# Altium footprint library WE-SHC.PcbLib: 139 footprints (part 8 of 10)
Each footprint in its own frame and in the unit in brackets; x right, y up, seen from the top. Pads: shape width x height; smd on the part's side, far side on the other; paste and mask are expansions set on the pad; w line width, h text height; cw(c..) or ccw(c..) is an arc to the next point about the centre after c.
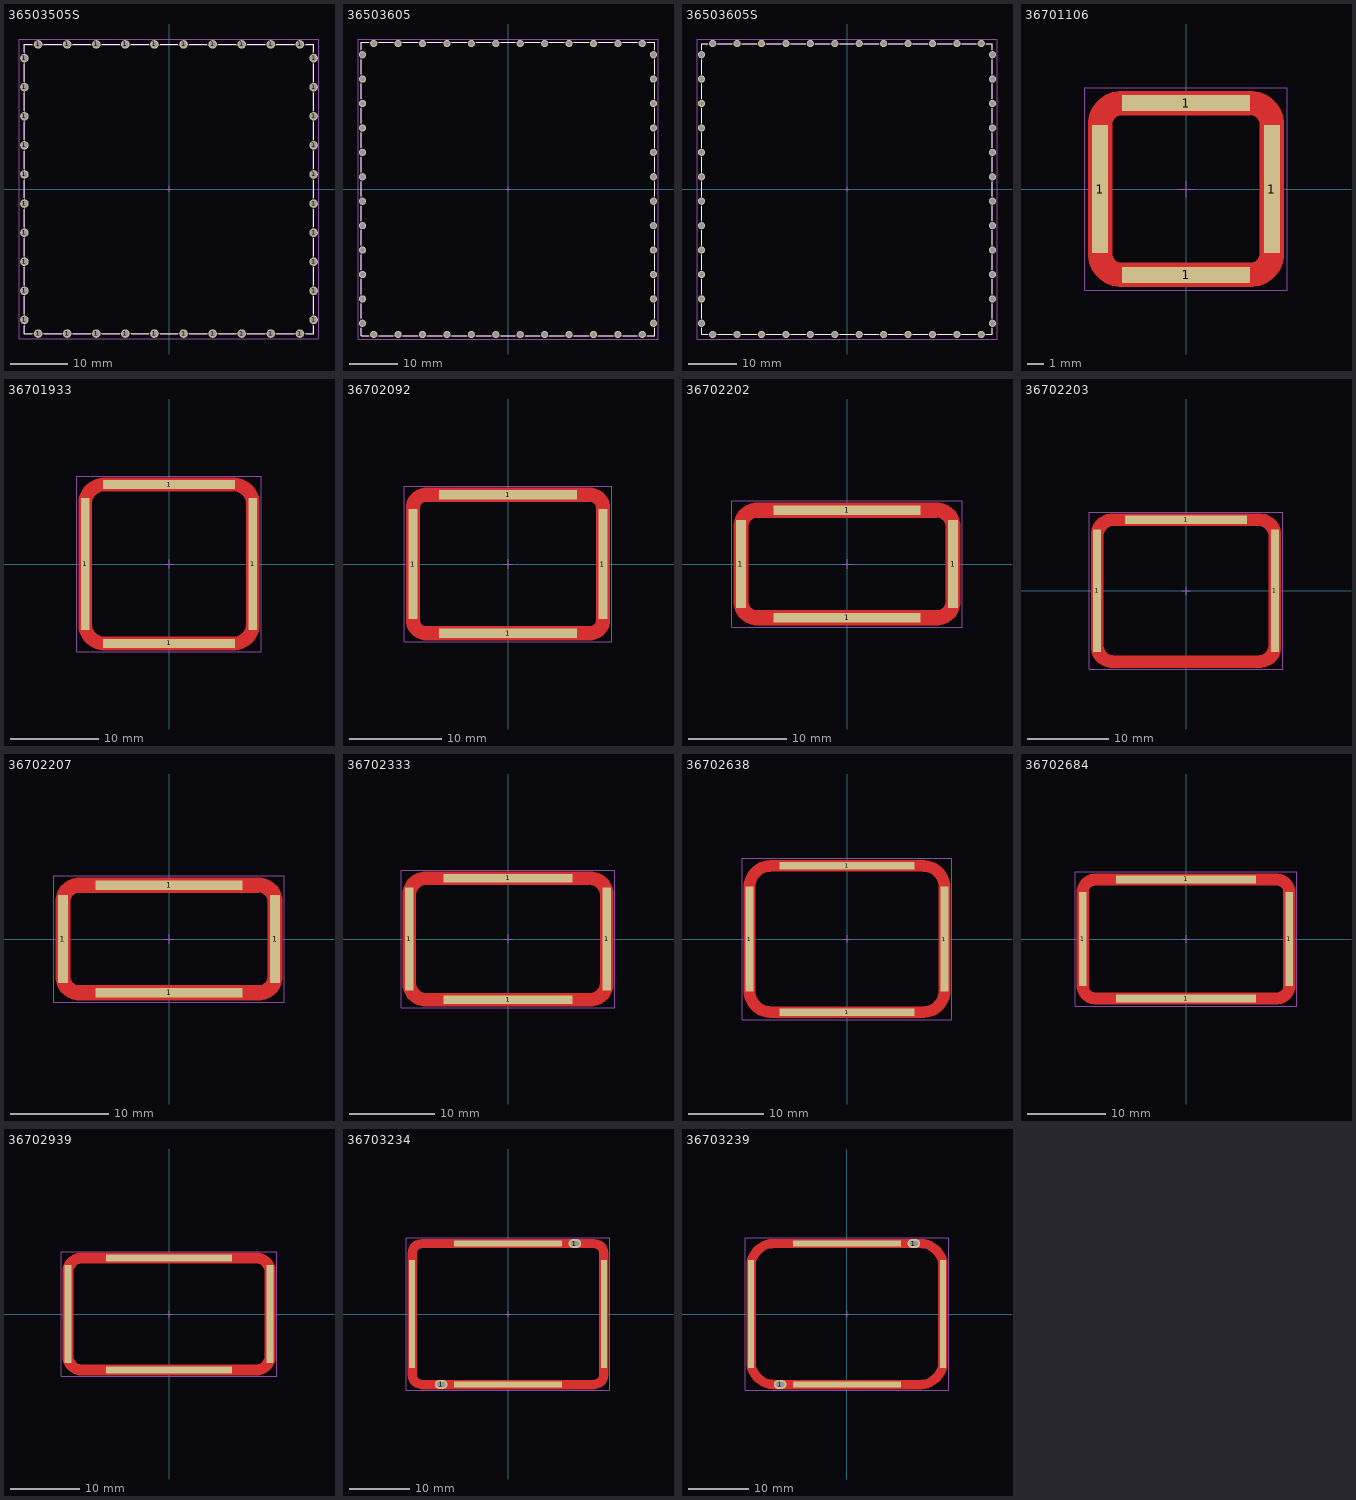
[diagram p7: the footprints below, top view; thin cyan lines are the x and y axes]

## 36503505S [mm] "Shielding Cabinet, THT Frame, body 50.4x50.4mm"
height 3.3
pads (40):
  round 1.5 hole 1.1: 1(-25.25,-22.86) 1(-25.25,-17.78) 1(-25.25,-12.7) 1(-25.25,-7.62) 1(-25.25,-2.54) 1(-25.25,2.54) 1(-25.25,7.62) 1(-25.25,12.7) 1(-25.25,17.78) 1(-25.25,22.86) 1(-22.86,-25.25) 1(-22.86,25.25) 1(-17.78,-25.25) 1(-17.78,25.25) 1(-12.7,-25.25) 1(-12.7,25.25) 1(-7.62,-25.25) 1(-7.62,25.25) 1(-2.54,-25.25) 1(-2.54,25.25) 1(2.54,-25.25) 1(2.54,25.25) 1(7.62,-25.25) 1(7.62,25.25) 1(12.7,-25.25) 1(12.7,25.25) 1(17.78,-25.25) 1(17.78,25.25) 1(22.86,-25.25) 1(22.86,25.25) 1(25.25,-22.86) 1(25.25,-17.78) 1(25.25,-12.7) 1(25.25,-7.62) 1(25.25,-2.54) 1(25.25,2.54) 1(25.25,7.62) 1(25.25,12.7) 1(25.25,17.78) 1(25.25,22.86)
Top Overlay:
  lines w0.2: -25.25,-23.85 -25.25,-25.25 -23.85,-25.25 ; -25.25,-21.87 -25.25,-18.75 ; -25.25,-16.81 -25.25,-13.69 ; -25.25,-11.73 -25.25,-8.61 ; -25.25,-6.65 -25.25,-3.53 ; -25.25,-1.57 -25.25,1.55 ; -25.25,3.51 -25.25,6.63 ; -25.25,8.59 -25.25,11.71 ; -25.25,13.67 -25.25,16.79 ; -25.25,18.75 -25.25,21.87 ; -25.25,23.85 -25.25,25.25 -23.85,25.25 ; -21.87,-25.25 -18.75,-25.25 ; -21.87,25.25 -18.75,25.25 ; -16.81,25.25 -13.69,25.25 ; -16.79,-25.25 -13.67,-25.25 ; -11.73,25.25 -8.61,25.25 ; -11.71,-25.25 -8.59,-25.25 ; -6.65,25.25 -3.53,25.25 ; -6.63,-25.25 -3.51,-25.25 ; -1.57,25.25 1.55,25.25 ; -1.55,-25.25 1.57,-25.25 ; 3.51,25.25 6.63,25.25 ; 3.53,-25.25 6.65,-25.25 ; 8.59,25.25 11.71,25.25 ; 8.61,-25.25 11.73,-25.25 ; 13.67,25.25 16.79,25.25 ; 13.69,-25.25 16.81,-25.25 ; 18.75,-25.25 21.87,-25.25 ; 18.75,25.25 21.87,25.25 ; 23.85,-25.25 25.25,-25.25 25.25,-23.85 ; 23.85,25.25 25.25,25.25 25.25,23.85 ; 25.25,-21.87 25.25,-18.75 ; 25.25,-16.79 25.25,-13.67 ; 25.25,-11.71 25.25,-8.59 ; 25.25,-6.63 25.25,-3.51 ; 25.25,-1.55 25.25,1.57 ; 25.25,3.53 25.25,6.65 ; 25.25,8.61 25.25,11.73 ; 25.25,13.69 25.25,16.81 ; 25.25,18.75 25.25,21.87
Top Component Outline:
  lines w0.1: -25.2,-25.2 25.2,-25.2 25.2,25.2 -25.2,25.2 -25.2,-25.2
Top 3D Body:
  lines w0.1: -25.2,-25.2 -25.2,25.2 25.2,25.2 25.2,-25.2 -25.2,-25.2
Top Courtyard:
  lines w0.05: -26.2,-26.2 26.2,-26.2 26.2,26.2 -26.2,26.2 -26.2,-26.2
Top Component Center:
  lines w0.05: -0.5,0 0.5,0 ; 0,-0.5 0,0.5
Top Designator (Mech19):
  text ".Designator" at -7.498,-0.5 h1.5
3D body "36503505S.stp": height 3.23, standoff -2.87, extent -25.2,-25.2 25.2,25.2

## 36503605 [mm] "Shielding Cabinet, THT Frame, body 61x61mm"
height 3.6
pads (48):
  round 1.5 hole 1.1: 1(-30.25,-27.94) 1(-30.25,-22.86) 1(-30.25,-17.78) 1(-30.25,-12.7) 1(-30.25,-7.62) 1(-30.25,-2.54) 1(-30.25,2.54) 1(-30.25,7.62) 1(-30.25,12.7) 1(-30.25,17.78) 1(-30.25,22.86) 1(-30.25,27.94) 1(-27.94,-30.25) 1(-27.94,30.25) 1(-22.86,-30.25) 1(-22.86,30.25) 1(-17.78,-30.25) 1(-17.78,30.25) 1(-12.7,-30.25) 1(-12.7,30.25) 1(-7.62,-30.25) 1(-7.62,30.25) 1(-2.54,-30.25) 1(-2.54,30.25) 1(2.54,-30.25) 1(2.54,30.25) 1(7.62,-30.25) 1(7.62,30.25) 1(12.7,-30.25) 1(12.7,30.25) 1(17.78,-30.25) 1(17.78,30.25) 1(22.86,-30.25) 1(22.86,30.25) 1(27.94,-30.25) 1(27.94,30.25) 1(30.25,-27.94) 1(30.25,-22.86) 1(30.25,-17.78) 1(30.25,-12.7) 1(30.25,-7.62) 1(30.25,-2.54) 1(30.25,2.54) 1(30.25,7.62) 1(30.25,12.7) 1(30.25,17.78) 1(30.25,22.86) 1(30.25,27.94)
Top Overlay:
  lines w0.2: -30.55,-28.95 -30.55,-30.55 -28.95,-30.55 ; -30.55,-26.93 -30.55,-23.85 ; -30.55,-21.87 -30.55,-18.79 ; -30.55,-16.79 -30.55,-13.71 ; -30.55,-11.71 -30.55,-8.63 ; -30.55,-6.63 -30.55,-3.55 ; -30.55,-1.55 -30.55,1.53 ; -30.55,3.53 -30.55,6.61 ; -30.55,8.61 -30.55,11.69 ; -30.55,13.69 -30.55,16.77 ; -30.55,18.77 -30.55,21.85 ; -30.55,23.85 -30.55,26.93 ; -30.55,28.95 -30.55,30.55 -28.95,30.55 ; -26.93,-30.55 -23.85,-30.55 ; -26.93,30.55 -23.85,30.55 ; -21.87,30.55 -18.79,30.55 ; -21.85,-30.55 -18.77,-30.55 ; -16.79,30.55 -13.71,30.55 ; -16.77,-30.55 -13.69,-30.55 ; -11.71,30.55 -8.63,30.55 ; -11.69,-30.55 -8.61,-30.55 ; -6.63,30.55 -3.55,30.55 ; -6.61,-30.55 -3.53,-30.55 ; -1.55,30.55 1.53,30.55 ; -1.53,-30.55 1.55,-30.55 ; 3.53,30.55 6.61,30.55 ; 3.55,-30.55 6.63,-30.55 ; 8.61,30.55 11.69,30.55 ; 8.63,-30.55 11.71,-30.55 ; 13.69,30.55 16.77,30.55 ; 13.71,-30.55 16.79,-30.55 ; 18.77,30.55 21.85,30.55 ; 18.79,-30.55 21.87,-30.55 ; 23.85,-30.55 26.93,-30.55 ; 23.85,30.55 26.93,30.55 ; 28.95,-30.55 30.55,-30.55 30.55,-28.95 ; 28.95,30.55 30.55,30.55 30.55,28.95 ; 30.55,-26.93 30.55,-23.85 ; 30.55,-21.85 30.55,-18.77 ; 30.55,-16.77 30.55,-13.69 ; 30.55,-11.69 30.55,-8.61 ; 30.55,-6.61 30.55,-3.53 ; 30.55,-1.53 30.55,1.55 ; 30.55,3.55 30.55,6.63 ; 30.55,8.63 30.55,11.71 ; 30.55,13.71 30.55,16.79 ; 30.55,18.79 30.55,21.87 ; 30.55,23.85 30.55,26.93
Top Component Outline:
  lines w0.1: -30.5,-30.5 -30.5,30.5 30.5,30.5 30.5,-30.5 -30.5,-30.5
Top 3D Body:
  lines w0.1: -30.5,-30.5 30.5,-30.5 30.5,30.5 -30.5,30.5 -30.5,-30.5
Top Courtyard:
  lines w0.05: -31.2,-31.2 -31.2,31.2 31.2,31.2 31.2,-31.2 -31.2,-31.2
Top Component Center:
  lines w0.05: -0.5,0 0.5,0 ; 0,-0.5 0,0.5
Top Designator (Mech19):
  text ".Designator" at -7.498,-0.5 h1.5
3D body "36503605.stp": height 3.5, standoff -2.9, extent -30.5,-30.5 30.5,30.5

## 36503605S [mm] "Shielding Cabinet, THT Frame, body 60.4x60.4mm"
height 3.3
pads (48):
  round 1.5 hole 1.1: 1(-30.25,-27.94) 1(-30.25,-22.86) 1(-30.25,-17.78) 1(-30.25,-12.7) 1(-30.25,-7.62) 1(-30.25,-2.54) 1(-30.25,2.54) 1(-30.25,7.62) 1(-30.25,12.7) 1(-30.25,17.78) 1(-30.25,22.86) 1(-30.25,27.94) 1(-27.94,-30.25) 1(-27.94,30.25) 1(-22.86,-30.25) 1(-22.86,30.25) 1(-17.78,-30.25) 1(-17.78,30.25) 1(-12.7,-30.25) 1(-12.7,30.25) 1(-7.62,-30.25) 1(-7.62,30.25) 1(-2.54,-30.25) 1(-2.54,30.25) 1(2.54,-30.25) 1(2.54,30.25) 1(7.62,-30.25) 1(7.62,30.25) 1(12.7,-30.25) 1(12.7,30.25) 1(17.78,-30.25) 1(17.78,30.25) 1(22.86,-30.25) 1(22.86,30.25) 1(27.94,-30.25) 1(27.94,30.25) 1(30.25,-27.94) 1(30.25,-22.86) 1(30.25,-17.78) 1(30.25,-12.7) 1(30.25,-7.62) 1(30.25,-2.54) 1(30.25,2.54) 1(30.25,7.62) 1(30.25,12.7) 1(30.25,17.78) 1(30.25,22.86) 1(30.25,27.94)
Top Overlay:
  lines w0.2: -30.25,-28.95 -30.25,-30.25 -28.95,-30.25 ; -30.25,-26.93 -30.25,-23.85 ; -30.25,-21.87 -30.25,-18.79 ; -30.25,-16.79 -30.25,-13.71 ; -30.25,-11.71 -30.25,-8.63 ; -30.25,-6.63 -30.25,-3.55 ; -30.25,-1.55 -30.25,1.53 ; -30.25,3.53 -30.25,6.61 ; -30.25,8.61 -30.25,11.69 ; -30.25,13.69 -30.25,16.77 ; -30.25,18.77 -30.25,21.85 ; -30.25,23.85 -30.25,26.93 ; -30.25,28.95 -30.25,30.25 -28.95,30.25 ; -26.93,-30.25 -23.85,-30.25 ; -26.93,30.25 -23.85,30.25 ; -21.87,30.25 -18.79,30.25 ; -21.85,-30.25 -18.77,-30.25 ; -16.79,30.25 -13.71,30.25 ; -16.77,-30.25 -13.69,-30.25 ; -11.71,30.25 -8.63,30.25 ; -11.69,-30.25 -8.61,-30.25 ; -6.63,30.25 -3.55,30.25 ; -6.61,-30.25 -3.53,-30.25 ; -1.55,30.25 1.53,30.25 ; -1.53,-30.25 1.55,-30.25 ; 3.53,30.25 6.61,30.25 ; 3.55,-30.25 6.63,-30.25 ; 8.61,30.25 11.69,30.25 ; 8.63,-30.25 11.71,-30.25 ; 13.69,30.25 16.77,30.25 ; 13.71,-30.25 16.79,-30.25 ; 18.77,30.25 21.85,30.25 ; 18.79,-30.25 21.87,-30.25 ; 23.85,-30.25 26.93,-30.25 ; 23.85,30.25 26.93,30.25 ; 28.95,-30.25 30.25,-30.25 30.25,-28.95 ; 28.95,30.25 30.25,30.25 30.25,28.95 ; 30.25,-26.93 30.25,-23.85 ; 30.25,-21.85 30.25,-18.77 ; 30.25,-16.77 30.25,-13.69 ; 30.25,-11.69 30.25,-8.61 ; 30.25,-6.61 30.25,-3.53 ; 30.25,-1.53 30.25,1.55 ; 30.25,3.55 30.25,6.63 ; 30.25,8.63 30.25,11.71 ; 30.25,13.71 30.25,16.79 ; 30.25,18.79 30.25,21.87 ; 30.25,23.85 30.25,26.93
Top Component Outline:
  lines w0.1: -30.2,-30.2 -30.2,30.2 30.2,30.2 30.2,-30.2 -30.2,-30.2
Top 3D Body:
  lines w0.1: -30.2,-30.2 30.2,-30.2 30.2,30.2 -30.2,30.2 -30.2,-30.2
Top Courtyard:
  lines w0.05: -31.2,-31.2 -31.2,31.2 31.2,31.2 31.2,-31.2 -31.2,-31.2
Top Component Center:
  lines w0.05: -0.5,0 0.5,0 ; 0,-0.5 0,0.5
Top Designator (Mech19):
  text ".Designator" at -7.498,-0.5 h1.5
3D body "36503605S.stp": height 3.2, standoff -2.9, extent -30.2,-30.2 30.2,30.2

## 36701106 [mm] "Shielding Cabinet, SMT Frame Seamless, 11x11x6mm"
height 6
pads (4):
  rect 1x8 smd paste-2539.97 mask-2222: 1(-5.35,0) 1(5.35,0)
  rect 8x1 smd paste-2539.97 mask-2222: 1(0,-5.35) 1(0,5.35)
Top Layer:
  region: -6.1,-1 -6.1,4 -6.1,4.207 -6.019,4.613 -5.861,4.995 -5.631,5.339 -5.339,5.631 -4.995,5.861 -4.613,6.019 -4.207,6.1 -4,6.1 4,6.1 4.207,6.1 4.613,6.019 4.995,5.861 5.339,5.631 5.631,5.339 5.861,4.995 6.019,4.613 6.1,4.207 6.1,4 6.1,-1 4.6,-1 4.6,4 4.588,4.117 4.499,4.333 4.333,4.499 4.117,4.588 4,4.6 -4,4.6 -4.117,4.588 -4.333,4.499 -4.499,4.333 -4.588,4.117 -4.6,4 -4.6,-1
  region: -6.1,-0.25 -6.1,-4 -6.1,-4.207 -6.019,-4.613 -5.861,-4.995 -5.631,-5.339 -5.339,-5.631 -4.995,-5.861 -4.613,-6.019 -4.207,-6.1 -4,-6.1 4,-6.1 4.207,-6.1 4.613,-6.019 4.995,-5.861 5.339,-5.631 5.631,-5.339 5.861,-4.995 6.019,-4.613 6.1,-4.207 6.1,-4 6.1,-0.25 4.6,-0.25 4.6,-4 4.588,-4.117 4.499,-4.333 4.333,-4.499 4.117,-4.588 4,-4.6 -4,-4.6 -4.117,-4.588 -4.333,-4.499 -4.499,-4.333 -4.588,-4.117 -4.6,-4 -4.6,-0.25
Top Paste:
  region: -6.1,-0.25 -6.1,-4 -6.1,-4.207 -6.019,-4.613 -5.861,-4.995 -5.631,-5.339 -5.339,-5.631 -4.995,-5.861 -4.613,-6.019 -4.207,-6.1 -4,-6.1 4,-6.1 4.207,-6.1 4.613,-6.019 4.995,-5.861 5.339,-5.631 5.631,-5.339 5.861,-4.995 6.019,-4.613 6.1,-4.207 6.1,-4 6.1,-0.25 4.6,-0.25 4.6,-4 4.588,-4.117 4.499,-4.333 4.333,-4.499 4.117,-4.588 4,-4.6 -4,-4.6 -4.117,-4.588 -4.333,-4.499 -4.499,-4.333 -4.588,-4.117 -4.6,-4 -4.6,-0.25
  region: -6.1,0.25 -6.1,4 -6.1,4.207 -6.019,4.613 -5.861,4.995 -5.631,5.339 -5.339,5.631 -4.995,5.861 -4.613,6.019 -4.207,6.1 -4,6.1 4,6.1 4.207,6.1 4.613,6.019 4.995,5.861 5.339,5.631 5.631,5.339 5.861,4.995 6.019,4.613 6.1,4.207 6.1,4 6.1,0.25 4.6,0.25 4.6,4 4.588,4.117 4.499,4.333 4.333,4.499 4.117,4.588 4,4.6 -4,4.6 -4.117,4.588 -4.333,4.499 -4.499,4.333 -4.588,4.117 -4.6,4 -4.6,0.25
Assembly Notes:
  text "recommended tin paste thickness=0.5mm / customer to define the final stencil gap" at -6.3,-7.7 h0.4
Top Component Outline:
  lines w0.1: -5.5,-4 ccw(c-4,-4) -4,-5.5 4,-5.5 ccw(c4,-4) 5.5,-4 5.5,4 ccw(c4,4) 4,5.5 -4,5.5 ccw(c-4,4) -5.5,4 -5.5,-4
Top 3D Body:
  lines w0.1: -5.5,-4 ccw(c-4,-4) -4,-5.5 4,-5.5 ccw(c4,-4) 5.5,-4 5.5,4 ccw(c4,4) 4,5.5 -4,5.5 ccw(c-4,4) -5.5,4 -5.5,-4
Top Courtyard:
  lines w0.05: -6.3,-6.3 6.3,-6.3 6.3,6.3 -6.3,6.3 -6.3,-6.3
Top Component Center:
  lines w0.05: -0.5,0 0.5,0 ; 0,-0.5 0,0.5
Top Designator (Mech19):
  text ".Designator" at -7.498,-0.5 h1.5
3D body "36701106.stp": height 6, standoff 0, extent -5.5,-5.5 5.5,5.5

## 36701933 [mm] "Shielding Cabinet, SMT Frame Seamless, 19.3x18.3x3.5mm"
height 3.5
pads (4):
  rect 1x15 smd paste-2539.97 mask-2222: 1(-9.5,0) 1(9.5,0)
  rect 15x1 smd paste-2539.97 mask-2222: 1(0,-9) 1(0,9)
Top Layer:
  region: -10.25,-1 -10.25,6.85 -10.25,7.04 -10.2,7.417 -10.102,7.784 -9.957,8.135 -9.766,8.465 -9.535,8.766 -9.266,9.035 -8.965,9.266 -8.635,9.457 -8.284,9.602 -7.917,9.7 -7.54,9.75 -7.35,9.75 7.35,9.75 7.54,9.75 7.917,9.7 8.284,9.602 8.635,9.457 8.965,9.266 9.266,9.035 9.535,8.766 9.766,8.465 9.957,8.135 10.102,7.784 10.2,7.417 10.25,7.04 10.25,6.85 10.25,-1 8.75,-1 8.75,6.8 8.743,6.942 8.688,7.221 8.579,7.484 8.421,7.72 8.22,7.921 7.984,8.079 7.721,8.188 7.442,8.243 7.3,8.25 -7.3,8.25 -7.442,8.243 -7.721,8.188 -7.984,8.079 -8.22,7.921 -8.421,7.72 -8.579,7.484 -8.688,7.221 -8.743,6.942 -8.75,6.8 -8.75,-1
  region: -10.25,-0.25 -10.25,-6.85 -10.25,-7.04 -10.2,-7.417 -10.102,-7.784 -9.957,-8.135 -9.766,-8.465 -9.535,-8.766 -9.266,-9.035 -8.965,-9.266 -8.635,-9.457 -8.284,-9.602 -7.917,-9.7 -7.54,-9.75 -7.35,-9.75 7.35,-9.75 7.54,-9.75 7.917,-9.7 8.284,-9.602 8.635,-9.457 8.965,-9.266 9.266,-9.035 9.535,-8.766 9.766,-8.465 9.957,-8.135 10.102,-7.784 10.2,-7.417 10.25,-7.04 10.25,-6.85 10.25,-0.25 8.75,-0.25 8.75,-6.8 8.743,-6.942 8.688,-7.221 8.579,-7.484 8.421,-7.72 8.22,-7.921 7.984,-8.079 7.721,-8.188 7.442,-8.243 7.3,-8.25 -7.3,-8.25 -7.442,-8.243 -7.721,-8.188 -7.984,-8.079 -8.22,-7.921 -8.421,-7.72 -8.579,-7.484 -8.688,-7.221 -8.743,-6.942 -8.75,-6.8 -8.75,-0.25
Top Paste:
  region: -10.25,-0.25 -10.25,-6.85 -10.25,-7.04 -10.2,-7.417 -10.102,-7.784 -9.957,-8.135 -9.766,-8.465 -9.535,-8.766 -9.266,-9.035 -8.965,-9.266 -8.635,-9.457 -8.284,-9.602 -7.917,-9.7 -7.54,-9.75 -7.35,-9.75 7.35,-9.75 7.54,-9.75 7.917,-9.7 8.284,-9.602 8.635,-9.457 8.965,-9.266 9.266,-9.035 9.535,-8.766 9.766,-8.465 9.957,-8.135 10.102,-7.784 10.2,-7.417 10.25,-7.04 10.25,-6.85 10.25,-0.25 8.75,-0.25 8.75,-6.8 8.743,-6.942 8.688,-7.221 8.579,-7.484 8.421,-7.72 8.22,-7.921 7.984,-8.079 7.721,-8.188 7.442,-8.243 7.3,-8.25 -7.3,-8.25 -7.442,-8.243 -7.721,-8.188 -7.984,-8.079 -8.22,-7.921 -8.421,-7.72 -8.579,-7.484 -8.688,-7.221 -8.743,-6.942 -8.75,-6.8 -8.75,-0.25
  region: -10.25,0.25 -10.25,6.85 -10.25,7.04 -10.2,7.417 -10.102,7.784 -9.957,8.135 -9.766,8.465 -9.535,8.766 -9.266,9.035 -8.965,9.266 -8.635,9.457 -8.284,9.602 -7.917,9.7 -7.54,9.75 -7.35,9.75 7.35,9.75 7.54,9.75 7.917,9.7 8.284,9.602 8.635,9.457 8.965,9.266 9.266,9.035 9.535,8.766 9.766,8.465 9.957,8.135 10.102,7.784 10.2,7.417 10.25,7.04 10.25,6.85 10.25,0.25 8.75,0.25 8.75,6.8 8.743,6.942 8.688,7.221 8.579,7.484 8.421,7.72 8.22,7.921 7.984,8.079 7.721,8.188 7.442,8.243 7.3,8.25 -7.3,8.25 -7.442,8.243 -7.721,8.188 -7.984,8.079 -8.22,7.921 -8.421,7.72 -8.579,7.484 -8.688,7.221 -8.743,6.942 -8.75,6.8 -8.75,0.25
Assembly Notes:
  text "recommended tin paste thickness=0.5mm / customer to define the final stencil gap" at -5.65,-11.3 h0.4
Top Component Outline:
  lines w0.1: -9.65,-6.9 ccw(c-7.4,-6.9) -7.4,-9.15 7.4,-9.15 ccw(c7.4,-6.9) 9.65,-6.9 9.65,6.9 ccw(c7.4,6.9) 7.4,9.15 -7.4,9.15 ccw(c-7.4,6.9) -9.65,6.9 -9.65,-6.9
Top 3D Body:
  lines w0.1: -9.65,-6.9 ccw(c-7.4,-6.9) -7.4,-9.15 7.4,-9.15 ccw(c7.4,-6.9) 9.65,-6.9 9.65,6.9 ccw(c7.4,6.9) 7.4,9.15 -7.4,9.15 ccw(c-7.4,6.9) -9.65,6.9 -9.65,-6.9
Top Courtyard:
  lines w0.05: -10.45,-9.95 -10.45,9.95 10.45,9.95 10.45,-9.95 -10.45,-9.95
Top Component Center:
  lines w0.05: -0.5,0 0.5,0 ; 0,-0.5 0,0.5
Top Designator (Mech19):
  text ".Designator" at -7.498,-0.5 h1.5
3D body "36701933.stp": height 3.5, standoff 0, extent -9.65,-9.15 9.65,9.15

## 36702092 [mm] "Shielding Cabinet, SMT Frame Seamless, 20.9x15.3x2mm"
height 2
pads (4):
  rect 1x12 smd paste-2539.97 mask-2222: 1(-10.35,0) 1(10.35,0)
  rect 15x1 smd paste-2539.97 mask-2222: 1(0,-7.55) 1(0,7.55)
Top Layer:
  region: -11.1,-1 -11.1,6.15 -11.1,6.362 -11.017,6.777 -10.855,7.168 -10.62,7.521 -10.321,7.82 -9.968,8.055 -9.577,8.217 -9.162,8.3 -8.95,8.3 8.95,8.3 9.162,8.3 9.577,8.217 9.968,8.055 10.321,7.82 10.62,7.521 10.855,7.168 11.017,6.777 11.1,6.362 11.1,6.15 11.1,-1 9.6,-1 9.6,6.15 9.588,6.277 9.49,6.511 9.311,6.69 9.077,6.788 8.95,6.8 -8.95,6.8 -9.077,6.788 -9.311,6.69 -9.49,6.511 -9.588,6.277 -9.6,6.15 -9.6,-1
  region: -11.1,-0.25 -11.1,-6.15 -11.1,-6.362 -11.017,-6.777 -10.855,-7.168 -10.62,-7.521 -10.321,-7.82 -9.968,-8.055 -9.577,-8.217 -9.162,-8.3 -8.95,-8.3 8.95,-8.3 9.162,-8.3 9.577,-8.217 9.968,-8.055 10.321,-7.82 10.62,-7.521 10.855,-7.168 11.017,-6.777 11.1,-6.362 11.1,-6.15 11.1,-0.25 9.6,-0.25 9.6,-6.15 9.588,-6.277 9.49,-6.511 9.311,-6.69 9.077,-6.788 8.95,-6.8 -8.95,-6.8 -9.077,-6.788 -9.311,-6.69 -9.49,-6.511 -9.588,-6.277 -9.6,-6.15 -9.6,-0.25
Top Paste:
  region: -11.1,-0.25 -11.1,-6.15 -11.1,-6.362 -11.017,-6.777 -10.855,-7.168 -10.62,-7.521 -10.321,-7.82 -9.968,-8.055 -9.577,-8.217 -9.162,-8.3 -8.95,-8.3 8.95,-8.3 9.162,-8.3 9.577,-8.217 9.968,-8.055 10.321,-7.82 10.62,-7.521 10.855,-7.168 11.017,-6.777 11.1,-6.362 11.1,-6.15 11.1,-0.25 9.6,-0.25 9.6,-6.15 9.588,-6.277 9.49,-6.511 9.311,-6.69 9.077,-6.788 8.95,-6.8 -8.95,-6.8 -9.077,-6.788 -9.311,-6.69 -9.49,-6.511 -9.588,-6.277 -9.6,-6.15 -9.6,-0.25
  region: -11.1,0.25 -11.1,6.15 -11.1,6.362 -11.017,6.777 -10.855,7.168 -10.62,7.521 -10.321,7.82 -9.968,8.055 -9.577,8.217 -9.162,8.3 -8.95,8.3 8.95,8.3 9.162,8.3 9.577,8.217 9.968,8.055 10.321,7.82 10.62,7.521 10.855,7.168 11.017,6.777 11.1,6.362 11.1,6.15 11.1,0.25 9.6,0.25 9.6,6.15 9.588,6.277 9.49,6.511 9.311,6.69 9.077,6.788 8.95,6.8 -8.95,6.8 -9.077,6.788 -9.311,6.69 -9.49,6.511 -9.588,6.277 -9.6,6.15 -9.6,0.25
Assembly Notes:
  text "recommended tin paste thickness=0.5mm / customer to define the final stencil gap" at -5.6,-9.85 h0.4
Top Component Outline:
  lines w0.1: -10.45,-6.15 ccw(c-8.95,-6.15) -8.95,-7.65 8.95,-7.65 ccw(c8.95,-6.15) 10.45,-6.15 10.45,6.15 ccw(c8.95,6.15) 8.95,7.65 -8.95,7.65 ccw(c-8.95,6.15) -10.45,6.15 -10.45,-6.15
Top 3D Body:
  lines w0.1: -10.45,-6.15 ccw(c-8.95,-6.15) -8.95,-7.65 8.95,-7.65 ccw(c8.95,-6.15) 10.45,-6.15 10.45,6.15 ccw(c8.95,6.15) 8.95,7.65 -8.95,7.65 ccw(c-8.95,6.15) -10.45,6.15 -10.45,-6.15
Top Courtyard:
  lines w0.05: -11.3,-8.5 11.3,-8.5 11.3,8.5 -11.3,8.5 -11.3,-8.5
Top Component Center:
  lines w0.05: -0.5,0 0.5,0 ; 0,-0.5 0,0.5
Top Designator (Mech19):
  text ".Designator" at -7.498,-0.5 h1.5
3D body "36702092.stp": height 2, standoff 0, extent -10.45,-7.65 10.45,7.65

## 36702202 [mm] "Shielding Cabinet, SMT Frame Seamless, 22x11.3x2.8mm"
height 2.8
pads (4):
  rect 1x9 smd paste-2539.97 mask-2222: 1(-10.85,0) 1(10.85,0)
  rect 15x1 smd paste-2539.97 mask-2222: 1(0,-5.5) 1(0,5.5)
Top Layer:
  region: -11.6,-1 -11.6,3.85 -11.6,4.086 -11.508,4.55 -11.327,4.987 -11.064,5.38 -10.73,5.714 -10.337,5.977 -9.9,6.158 -9.436,6.25 -9.2,6.25 9.2,6.25 9.436,6.25 9.9,6.158 10.337,5.977 10.73,5.714 11.064,5.38 11.327,4.987 11.508,4.55 11.6,4.086 11.6,3.85 11.6,-1 10.1,-1 10.1,3.85 10.096,3.938 10.061,4.111 9.994,4.274 9.896,4.421 9.771,4.546 9.624,4.644 9.461,4.711 9.288,4.746 9.2,4.75 -9.2,4.75 -9.288,4.746 -9.461,4.711 -9.624,4.644 -9.771,4.546 -9.896,4.421 -9.994,4.274 -10.061,4.111 -10.096,3.938 -10.1,3.85 -10.1,-1
  region: -11.6,-0.25 -11.6,-3.85 -11.6,-4.086 -11.508,-4.55 -11.327,-4.987 -11.064,-5.38 -10.73,-5.714 -10.337,-5.977 -9.9,-6.158 -9.436,-6.25 -9.2,-6.25 9.2,-6.25 9.436,-6.25 9.9,-6.158 10.337,-5.977 10.73,-5.714 11.064,-5.38 11.327,-4.987 11.508,-4.55 11.6,-4.086 11.6,-3.85 11.6,-0.25 10.1,-0.25 10.1,-3.85 10.096,-3.938 10.061,-4.111 9.994,-4.274 9.896,-4.421 9.771,-4.546 9.624,-4.644 9.461,-4.711 9.288,-4.746 9.2,-4.75 -9.2,-4.75 -9.288,-4.746 -9.461,-4.711 -9.624,-4.644 -9.771,-4.546 -9.896,-4.421 -9.994,-4.274 -10.061,-4.111 -10.096,-3.938 -10.1,-3.85 -10.1,-0.25
Top Paste:
  region: -11.6,-0.25 -11.6,-3.85 -11.6,-4.086 -11.508,-4.55 -11.327,-4.987 -11.064,-5.38 -10.73,-5.714 -10.337,-5.977 -9.9,-6.158 -9.436,-6.25 -9.2,-6.25 9.2,-6.25 9.436,-6.25 9.9,-6.158 10.337,-5.977 10.73,-5.714 11.064,-5.38 11.327,-4.987 11.508,-4.55 11.6,-4.086 11.6,-3.85 11.6,-0.25 10.1,-0.25 10.1,-3.85 10.096,-3.938 10.061,-4.111 9.994,-4.274 9.896,-4.421 9.771,-4.546 9.624,-4.644 9.461,-4.711 9.288,-4.746 9.2,-4.75 -9.2,-4.75 -9.288,-4.746 -9.461,-4.711 -9.624,-4.644 -9.771,-4.546 -9.896,-4.421 -9.994,-4.274 -10.061,-4.111 -10.096,-3.938 -10.1,-3.85 -10.1,-0.25
  region: -11.6,0.25 -11.6,3.85 -11.6,4.086 -11.508,4.55 -11.327,4.987 -11.064,5.38 -10.73,5.714 -10.337,5.977 -9.9,6.158 -9.436,6.25 -9.2,6.25 9.2,6.25 9.436,6.25 9.9,6.158 10.337,5.977 10.73,5.714 11.064,5.38 11.327,4.987 11.508,4.55 11.6,4.086 11.6,3.85 11.6,0.25 10.1,0.25 10.1,3.85 10.096,3.938 10.061,4.111 9.994,4.274 9.896,4.421 9.771,4.546 9.624,4.644 9.461,4.711 9.288,4.746 9.2,4.75 -9.2,4.75 -9.288,4.746 -9.461,4.711 -9.624,4.644 -9.771,4.546 -9.896,4.421 -9.994,4.274 -10.061,4.111 -10.096,3.938 -10.1,3.85 -10.1,0.25
Assembly Notes:
  text "recommended tin paste thickness=0.5mm / customer to define the final stencil gap" at -5.65,-7.9 h0.4
Top Component Outline:
  lines w0.1: -11,-3.9 ccw(c-9.25,-3.9) -9.25,-5.65 9.25,-5.65 ccw(c9.25,-3.9) 11,-3.9 11,3.9 ccw(c9.25,3.9) 9.25,5.65 -9.25,5.65 ccw(c-9.25,3.9) -11,3.9 -11,-3.9
Top 3D Body:
  lines w0.1: -11,-3.9 ccw(c-9.25,-3.9) -9.25,-5.65 9.25,-5.65 ccw(c9.25,-3.9) 11,-3.9 11,3.9 ccw(c9.25,3.9) 9.25,5.65 -9.25,5.65 ccw(c-9.25,3.9) -11,3.9 -11,-3.9
Top Courtyard:
  lines w0.05: -11.8,-6.45 11.8,-6.45 11.8,6.45 -11.8,6.45 -11.8,-6.45
Top Component Center:
  lines w0.05: -0.5,0 0.5,0 ; 0,-0.5 0,0.5
Top Designator (Mech19):
  text ".Designator" at -7.498,-0.5 h1.5
3D body "36702202.stp": height 2.8, standoff 0, extent -11,-5.65 11,5.65

## 36702203 [mm] "Shielding Cabinet, SMT Frame Seamless, 22x17.7x3mm"
height 3
pads (3):
  rect 1x15 smd paste-2539.97 mask-2222: 1(-10.9,0) 1(10.9,0)
  rect 15x1 smd paste-2539.97 mask-2222: 1(0,8.7)
Top Layer:
  region: -11.65,-1 -11.65,6.85 -11.65,7.106 -11.55,7.608 -11.354,8.082 -11.07,8.507 -10.707,8.87 -10.282,9.154 -9.808,9.35 -9.306,9.45 -9.05,9.45 9.05,9.45 9.306,9.45 9.808,9.35 10.282,9.154 10.707,8.87 11.07,8.507 11.354,8.082 11.55,7.608 11.65,7.106 11.65,6.85 11.65,-1 10.15,-1 10.15,6.65 10.144,6.777 10.094,7.027 9.996,7.263 9.855,7.475 9.675,7.655 9.463,7.796 9.227,7.894 8.977,7.944 8.85,7.95 -8.85,7.95 -8.977,7.944 -9.227,7.894 -9.463,7.796 -9.675,7.655 -9.855,7.475 -9.996,7.263 -10.094,7.027 -10.144,6.777 -10.15,6.65 -10.15,-1
  region: -11.65,-0.25 -11.65,-6.85 -11.65,-7.106 -11.55,-7.608 -11.354,-8.082 -11.07,-8.507 -10.707,-8.87 -10.282,-9.154 -9.808,-9.35 -9.306,-9.45 -9.05,-9.45 9.05,-9.45 9.306,-9.45 9.808,-9.35 10.282,-9.154 10.707,-8.87 11.07,-8.507 11.354,-8.082 11.55,-7.608 11.65,-7.106 11.65,-6.85 11.65,-0.25 10.15,-0.25 10.15,-6.65 10.144,-6.777 10.094,-7.027 9.996,-7.263 9.855,-7.475 9.675,-7.655 9.463,-7.796 9.227,-7.894 8.977,-7.944 8.85,-7.95 -8.85,-7.95 -8.977,-7.944 -9.227,-7.894 -9.463,-7.796 -9.675,-7.655 -9.855,-7.475 -9.996,-7.263 -10.094,-7.027 -10.144,-6.777 -10.15,-6.65 -10.15,-0.25
Top Paste:
  region: -11.65,-0.25 -11.65,-6.85 -11.65,-7.106 -11.55,-7.608 -11.354,-8.082 -11.07,-8.507 -10.707,-8.87 -10.282,-9.154 -9.808,-9.35 -9.306,-9.45 -9.05,-9.45 9.05,-9.45 9.306,-9.45 9.808,-9.35 10.282,-9.154 10.707,-8.87 11.07,-8.507 11.354,-8.082 11.55,-7.608 11.65,-7.106 11.65,-6.85 11.65,-0.25 10.15,-0.25 10.15,-6.65 10.144,-6.777 10.094,-7.027 9.996,-7.263 9.855,-7.475 9.675,-7.655 9.463,-7.796 9.227,-7.894 8.977,-7.944 8.85,-7.95 -8.85,-7.95 -8.977,-7.944 -9.227,-7.894 -9.463,-7.796 -9.675,-7.655 -9.855,-7.475 -9.996,-7.263 -10.094,-7.027 -10.144,-6.777 -10.15,-6.65 -10.15,-0.25
  region: -11.65,0.25 -11.65,6.85 -11.65,7.106 -11.55,7.608 -11.354,8.082 -11.07,8.507 -10.707,8.87 -10.282,9.154 -9.808,9.35 -9.306,9.45 -9.05,9.45 9.05,9.45 9.306,9.45 9.808,9.35 10.282,9.154 10.707,8.87 11.07,8.507 11.354,8.082 11.55,7.608 11.65,7.106 11.65,6.85 11.65,0.25 10.15,0.25 10.15,6.65 10.144,6.777 10.094,7.027 9.996,7.263 9.855,7.475 9.675,7.655 9.463,7.796 9.227,7.894 8.977,7.944 8.85,7.95 -8.85,7.95 -8.977,7.944 -9.227,7.894 -9.463,7.796 -9.675,7.655 -9.855,7.475 -9.996,7.263 -10.094,7.027 -10.144,6.777 -10.15,6.65 -10.15,0.25
Assembly Notes:
  text "recommended tin paste thickness=0.5mm / customer to define the final stencil gap" at -6.25,-11.2 h0.4
Top Component Outline:
  lines w0.1: -11,-6.85 ccw(c-9,-6.85) -9,-8.85 9,-8.85 ccw(c9,-6.85) 11,-6.85 11,6.85 ccw(c9,6.85) 9,8.85 -9,8.85 ccw(c-9,6.85) -11,6.85 -11,-6.85
Top 3D Body:
  lines w0.1: -11,-6.85 ccw(c-9,-6.85) -9,-8.85 9,-8.85 ccw(c9,-6.85) 11,-6.85 11,6.85 ccw(c9,6.85) 9,8.85 -9,8.85 ccw(c-9,6.85) -11,6.85 -11,-6.85
Top Courtyard:
  lines w0.05: -11.85,-9.65 11.85,-9.65 11.85,9.65 -11.85,9.65 -11.85,-9.65
Top Component Center:
  lines w0.05: -0.5,0 0.5,0 ; 0,-0.5 0,0.5
Top Designator (Mech19):
  text ".Designator" at -7.498,-0.5 h1.5
3D body "36702203.stp": height 3, standoff 0, extent -11,-8.85 11,8.85

## 36702207 [mm] "Shielding Cabinet, SMT Frame Seamless, 22x11.3x7mm"
height 7
pads (4):
  rect 1x9 smd paste-2539.97 mask-2222: 1(-10.85,0) 1(10.85,0)
  rect 15x1 smd paste-2539.97 mask-2222: 1(0,-5.5) 1(0,5.5)
Top Layer:
  region: -11.6,-1 -11.6,3.85 -11.6,4.086 -11.508,4.55 -11.327,4.987 -11.064,5.38 -10.73,5.714 -10.337,5.977 -9.9,6.158 -9.436,6.25 -9.2,6.25 9.2,6.25 9.436,6.25 9.9,6.158 10.337,5.977 10.73,5.714 11.064,5.38 11.327,4.987 11.508,4.55 11.6,4.086 11.6,3.85 11.6,-1 10.1,-1 10.1,3.85 10.096,3.938 10.061,4.111 9.994,4.274 9.896,4.421 9.771,4.546 9.624,4.644 9.461,4.711 9.288,4.746 9.2,4.75 -9.2,4.75 -9.288,4.746 -9.461,4.711 -9.624,4.644 -9.771,4.546 -9.896,4.421 -9.994,4.274 -10.061,4.111 -10.096,3.938 -10.1,3.85 -10.1,-1
  region: -11.6,-0.25 -11.6,-3.85 -11.6,-4.086 -11.508,-4.55 -11.327,-4.987 -11.064,-5.38 -10.73,-5.714 -10.337,-5.977 -9.9,-6.158 -9.436,-6.25 -9.2,-6.25 9.2,-6.25 9.436,-6.25 9.9,-6.158 10.337,-5.977 10.73,-5.714 11.064,-5.38 11.327,-4.987 11.508,-4.55 11.6,-4.086 11.6,-3.85 11.6,-0.25 10.1,-0.25 10.1,-3.85 10.096,-3.938 10.061,-4.111 9.994,-4.274 9.896,-4.421 9.771,-4.546 9.624,-4.644 9.461,-4.711 9.288,-4.746 9.2,-4.75 -9.2,-4.75 -9.288,-4.746 -9.461,-4.711 -9.624,-4.644 -9.771,-4.546 -9.896,-4.421 -9.994,-4.274 -10.061,-4.111 -10.096,-3.938 -10.1,-3.85 -10.1,-0.25
Top Paste:
  region: -11.6,-0.25 -11.6,-3.85 -11.6,-4.086 -11.508,-4.55 -11.327,-4.987 -11.064,-5.38 -10.73,-5.714 -10.337,-5.977 -9.9,-6.158 -9.436,-6.25 -9.2,-6.25 9.2,-6.25 9.436,-6.25 9.9,-6.158 10.337,-5.977 10.73,-5.714 11.064,-5.38 11.327,-4.987 11.508,-4.55 11.6,-4.086 11.6,-3.85 11.6,-0.25 10.1,-0.25 10.1,-3.85 10.096,-3.938 10.061,-4.111 9.994,-4.274 9.896,-4.421 9.771,-4.546 9.624,-4.644 9.461,-4.711 9.288,-4.746 9.2,-4.75 -9.2,-4.75 -9.288,-4.746 -9.461,-4.711 -9.624,-4.644 -9.771,-4.546 -9.896,-4.421 -9.994,-4.274 -10.061,-4.111 -10.096,-3.938 -10.1,-3.85 -10.1,-0.25
  region: -11.6,0.25 -11.6,3.85 -11.6,4.086 -11.508,4.55 -11.327,4.987 -11.064,5.38 -10.73,5.714 -10.337,5.977 -9.9,6.158 -9.436,6.25 -9.2,6.25 9.2,6.25 9.436,6.25 9.9,6.158 10.337,5.977 10.73,5.714 11.064,5.38 11.327,4.987 11.508,4.55 11.6,4.086 11.6,3.85 11.6,0.25 10.1,0.25 10.1,3.85 10.096,3.938 10.061,4.111 9.994,4.274 9.896,4.421 9.771,4.546 9.624,4.644 9.461,4.711 9.288,4.746 9.2,4.75 -9.2,4.75 -9.288,4.746 -9.461,4.711 -9.624,4.644 -9.771,4.546 -9.896,4.421 -9.994,4.274 -10.061,4.111 -10.096,3.938 -10.1,3.85 -10.1,0.25
Assembly Notes:
  text "recommended tin paste thickness=0.5mm / customer to define the final stencil gap" at -5.65,-7.9 h0.4
Top Component Outline:
  lines w0.1: -11,-3.9 ccw(c-9.25,-3.9) -9.25,-5.65 9.25,-5.65 ccw(c9.25,-3.9) 11,-3.9 11,3.9 ccw(c9.25,3.9) 9.25,5.65 -9.25,5.65 ccw(c-9.25,3.9) -11,3.9 -11,-3.9
Top 3D Body:
  lines w0.1: -11,-3.9 ccw(c-9.25,-3.9) -9.25,-5.65 9.25,-5.65 ccw(c9.25,-3.9) 11,-3.9 11,3.9 ccw(c9.25,3.9) 9.25,5.65 -9.25,5.65 ccw(c-9.25,3.9) -11,3.9 -11,-3.9
Top Courtyard:
  lines w0.05: -11.8,-6.45 -11.8,6.45 11.8,6.45 11.8,-6.45 -11.8,-6.45
Top Component Center:
  lines w0.05: -0.5,0 0.5,0 ; 0,-0.5 0,0.5
Top Designator (Mech19):
  text ".Designator" at -7.498,-0.5 h1.5
3D body "36702207.stp": height 7, standoff 0, extent -11,-5.65 11,5.65

## 36702333 [mm] "Shielding Cabinet, SMT Frame Seamless, 23.3x14.5x3mm"
height 3
pads (4):
  rect 1x12 smd paste-2539.97 mask-2222: 1(-11.5,0) 1(11.5,0)
  rect 15x1 smd paste-2539.97 mask-2222: 1(0,-7.1) 1(0,7.1)
Top Layer:
  region: -12.25,-0.25 -12.25,-5.25 -12.25,-5.506 -12.15,-6.008 -11.954,-6.482 -11.67,-6.907 -11.307,-7.27 -10.882,-7.554 -10.408,-7.75 -9.906,-7.85 -9.65,-7.85 9.65,-7.85 9.906,-7.85 10.408,-7.75 10.882,-7.554 11.307,-7.27 11.67,-6.907 11.954,-6.482 12.15,-6.008 12.25,-5.506 12.25,-5.25 12.25,-0.25 10.75,-0.25 10.75,-5.05 10.744,-5.177 10.694,-5.427 10.596,-5.663 10.455,-5.875 10.275,-6.055 10.063,-6.196 9.827,-6.294 9.577,-6.344 9.45,-6.35 -9.45,-6.35 -9.577,-6.344 -9.827,-6.294 -10.063,-6.196 -10.275,-6.055 -10.455,-5.875 -10.596,-5.663 -10.694,-5.427 -10.744,-5.177 -10.75,-5.05 -10.75,-0.25
  region: -12.25,-1 -12.25,5.25 -12.25,5.506 -12.15,6.008 -11.954,6.482 -11.67,6.907 -11.307,7.27 -10.882,7.554 -10.408,7.75 -9.906,7.85 -9.65,7.85 9.65,7.85 9.906,7.85 10.408,7.75 10.882,7.554 11.307,7.27 11.67,6.907 11.954,6.482 12.15,6.008 12.25,5.506 12.25,5.25 12.25,-1 10.75,-1 10.75,5.05 10.744,5.177 10.694,5.427 10.596,5.663 10.455,5.875 10.275,6.055 10.063,6.196 9.827,6.294 9.577,6.344 9.45,6.35 -9.45,6.35 -9.577,6.344 -9.827,6.294 -10.063,6.196 -10.275,6.055 -10.455,5.875 -10.596,5.663 -10.694,5.427 -10.744,5.177 -10.75,5.05 -10.75,-1
Top Paste:
  region: -12.25,0.25 -12.25,5.25 -12.25,5.506 -12.15,6.008 -11.954,6.482 -11.67,6.907 -11.307,7.27 -10.882,7.554 -10.408,7.75 -9.906,7.85 -9.65,7.85 9.65,7.85 9.906,7.85 10.408,7.75 10.882,7.554 11.307,7.27 11.67,6.907 11.954,6.482 12.15,6.008 12.25,5.506 12.25,5.25 12.25,0.25 10.75,0.25 10.75,5.05 10.744,5.177 10.694,5.427 10.596,5.663 10.455,5.875 10.275,6.055 10.063,6.196 9.827,6.294 9.577,6.344 9.45,6.35 -9.45,6.35 -9.577,6.344 -9.827,6.294 -10.063,6.196 -10.275,6.055 -10.455,5.875 -10.596,5.663 -10.694,5.427 -10.744,5.177 -10.75,5.05 -10.75,0.25
  region: -12.25,-0.25 -12.25,-5.25 -12.25,-5.506 -12.15,-6.008 -11.954,-6.482 -11.67,-6.907 -11.307,-7.27 -10.882,-7.554 -10.408,-7.75 -9.906,-7.85 -9.65,-7.85 9.65,-7.85 9.906,-7.85 10.408,-7.75 10.882,-7.554 11.307,-7.27 11.67,-6.907 11.954,-6.482 12.15,-6.008 12.25,-5.506 12.25,-5.25 12.25,-0.25 10.75,-0.25 10.75,-5.05 10.744,-5.177 10.694,-5.427 10.596,-5.663 10.455,-5.875 10.275,-6.055 10.063,-6.196 9.827,-6.294 9.577,-6.344 9.45,-6.35 -9.45,-6.35 -9.577,-6.344 -9.827,-6.294 -10.063,-6.196 -10.275,-6.055 -10.455,-5.875 -10.596,-5.663 -10.694,-5.427 -10.744,-5.177 -10.75,-5.05 -10.75,-0.25
Assembly Notes:
  text "recommended tin paste thickness=0.5mm / customer to define the final stencil gap" at -6.2,-9.45 h0.4
Top Component Outline:
  lines w0.1: -11.65,-5.25 ccw(c-9.65,-5.25) -9.65,-7.25 9.65,-7.25 ccw(c9.65,-5.25) 11.65,-5.25 11.65,5.25 ccw(c9.65,5.25) 9.65,7.25 -9.65,7.25 ccw(c-9.65,5.25) -11.65,5.25 -11.65,-5.25
Top 3D Body:
  lines w0.1: -11.65,-5.25 ccw(c-9.65,-5.25) -9.65,-7.25 9.65,-7.25 ccw(c9.65,-5.25) 11.65,-5.25 11.65,5.25 ccw(c9.65,5.25) 9.65,7.25 -9.65,7.25 ccw(c-9.65,5.25) -11.65,5.25 -11.65,-5.25
Top Courtyard:
  lines w0.05: -12.45,-8.05 12.45,-8.05 12.45,8.05 -12.45,8.05 -12.45,-8.05
Top Component Center:
  lines w0.05: -0.5,0 0.5,0 ; 0,-0.5 0,0.5
Top Designator (Mech19):
  text ".Designator" at -7.498,-0.5 h1.5
3D body "36702333.stp": height 3, standoff 0, extent -11.65,-7.25 11.65,7.25

## 36702638 [mm] "Shielding Cabinet, SMT Frame Seamless, 26.3x19.8x8.1mm"
height 8.1
pads (4):
  rect 1x14 smd paste-2539.97 mask-2222: 1(-13,0) 1(13,0)
  rect 18x1 smd paste-2539.97 mask-2222: 1(0,-9.75) 1(0,9.75)
Top Layer:
  region: -13.75,-1 -13.75,6.9 -13.75,7.136 -13.688,7.604 -13.566,8.06 -13.386,8.496 -13.15,8.904 -12.862,9.279 -12.529,9.612 -12.154,9.9 -11.746,10.136 -11.31,10.316 -10.854,10.438 -10.386,10.5 -10.15,10.5 10.15,10.5 10.386,10.5 10.854,10.438 11.31,10.316 11.746,10.136 12.154,9.9 12.529,9.612 12.862,9.279 13.15,8.904 13.386,8.496 13.566,8.06 13.688,7.604 13.75,7.136 13.75,6.9 13.75,-1 12.25,-1 12.25,6.9 12.24,7.106 12.16,7.51 12.002,7.89 11.773,8.232 11.482,8.523 11.14,8.752 10.76,8.91 10.356,8.99 10.15,9 -10.15,9 -10.356,8.99 -10.76,8.91 -11.14,8.752 -11.482,8.523 -11.773,8.232 -12.002,7.89 -12.16,7.51 -12.24,7.106 -12.25,6.9 -12.25,-1
  region: -13.75,-0.25 -13.75,-6.9 -13.75,-7.136 -13.688,-7.604 -13.566,-8.06 -13.386,-8.496 -13.15,-8.904 -12.862,-9.279 -12.529,-9.612 -12.154,-9.9 -11.746,-10.136 -11.31,-10.316 -10.854,-10.438 -10.386,-10.5 -10.15,-10.5 10.15,-10.5 10.386,-10.5 10.854,-10.438 11.31,-10.316 11.746,-10.136 12.154,-9.9 12.529,-9.612 12.862,-9.279 13.15,-8.904 13.386,-8.496 13.566,-8.06 13.688,-7.604 13.75,-7.136 13.75,-6.9 13.75,-0.25 12.25,-0.25 12.25,-6.9 12.24,-7.106 12.16,-7.51 12.002,-7.89 11.773,-8.232 11.482,-8.523 11.14,-8.752 10.76,-8.91 10.356,-8.99 10.15,-9 -10.15,-9 -10.356,-8.99 -10.76,-8.91 -11.14,-8.752 -11.482,-8.523 -11.773,-8.232 -12.002,-7.89 -12.16,-7.51 -12.24,-7.106 -12.25,-6.9 -12.25,-0.25
Top Paste:
  region: -13.75,-0.25 -13.75,-6.9 -13.75,-7.136 -13.688,-7.604 -13.566,-8.06 -13.386,-8.496 -13.15,-8.904 -12.862,-9.279 -12.529,-9.612 -12.154,-9.9 -11.746,-10.136 -11.31,-10.316 -10.854,-10.438 -10.386,-10.5 -10.15,-10.5 10.15,-10.5 10.386,-10.5 10.854,-10.438 11.31,-10.316 11.746,-10.136 12.154,-9.9 12.529,-9.612 12.862,-9.279 13.15,-8.904 13.386,-8.496 13.566,-8.06 13.688,-7.604 13.75,-7.136 13.75,-6.9 13.75,-0.25 12.25,-0.25 12.25,-6.9 12.24,-7.106 12.16,-7.51 12.002,-7.89 11.773,-8.232 11.482,-8.523 11.14,-8.752 10.76,-8.91 10.356,-8.99 10.15,-9 -10.15,-9 -10.356,-8.99 -10.76,-8.91 -11.14,-8.752 -11.482,-8.523 -11.773,-8.232 -12.002,-7.89 -12.16,-7.51 -12.24,-7.106 -12.25,-6.9 -12.25,-0.25
  region: -13.75,0.25 -13.75,6.9 -13.75,7.136 -13.688,7.604 -13.566,8.06 -13.386,8.496 -13.15,8.904 -12.862,9.279 -12.529,9.612 -12.154,9.9 -11.746,10.136 -11.31,10.316 -10.854,10.438 -10.386,10.5 -10.15,10.5 10.15,10.5 10.386,10.5 10.854,10.438 11.31,10.316 11.746,10.136 12.154,9.9 12.529,9.612 12.862,9.279 13.15,8.904 13.386,8.496 13.566,8.06 13.688,7.604 13.75,7.136 13.75,6.9 13.75,0.25 12.25,0.25 12.25,6.9 12.24,7.106 12.16,7.51 12.002,7.89 11.773,8.232 11.482,8.523 11.14,8.752 10.76,8.91 10.356,8.99 10.15,9 -10.15,9 -10.356,8.99 -10.76,8.91 -11.14,8.752 -11.482,8.523 -11.773,8.232 -12.002,7.89 -12.16,7.51 -12.24,7.106 -12.25,6.9 -12.25,0.25
Assembly Notes:
  text "recommended tin paste thickness=0.5mm / customer to define the final stencil gap" at -5.15,-12.1 h0.4
Top Component Outline:
  lines w0.1: -13.15,-6.9 ccw(c-10.15,-6.9) -10.15,-9.9 10.15,-9.9 ccw(c10.15,-6.9) 13.15,-6.9 13.15,6.9 ccw(c10.15,6.9) 10.15,9.9 -10.15,9.9 ccw(c-10.15,6.9) -13.15,6.9 -13.15,-6.9
Top 3D Body:
  lines w0.1: -13.15,-6.9 ccw(c-10.15,-6.9) -10.15,-9.9 10.15,-9.9 ccw(c10.15,-6.9) 13.15,-6.9 13.15,6.9 ccw(c10.15,6.9) 10.15,9.9 -10.15,9.9 ccw(c-10.15,6.9) -13.15,6.9 -13.15,-6.9
Top Courtyard:
  lines w0.05: -13.95,-10.75 -13.95,10.75 13.95,10.75 13.95,-10.75 -13.95,-10.75
Top Component Center:
  lines w0.05: -0.5,0 0.5,0 ; 0,-0.5 0,0.5
Top Designator (Mech19):
  text ".Designator" at -7.498,-0.5 h1.5
3D body "36702638.stp": height 8.1, standoff 0, extent -13.15,-9.9 13.15,9.9

## 36702684 [mm] "Shielding Cabinet, SMT Frame Seamless, 26.8x15.6x4mm"
height 4
pads (4):
  rect 1x12 smd paste-2539.97 mask-2222: 1(-13.25,0) 1(13.25,0)
  rect 18x1 smd paste-2539.97 mask-2222: 1(0,-7.65) 1(0,7.65)
Top Layer:
  region: -14,-0.25 -14,-6 -14,-6.236 -13.908,-6.7 -13.727,-7.137 -13.464,-7.53 -13.13,-7.864 -12.737,-8.127 -12.3,-8.308 -11.836,-8.4 -11.6,-8.4 11.6,-8.4 11.836,-8.4 12.3,-8.308 12.737,-8.127 13.13,-7.864 13.464,-7.53 13.727,-7.137 13.908,-6.7 14,-6.236 14,-6 14,-0.25 12.5,-0.25 12.5,-6 12.496,-6.088 12.461,-6.261 12.394,-6.424 12.296,-6.571 12.171,-6.696 12.024,-6.794 11.861,-6.861 11.688,-6.896 11.6,-6.9 -11.6,-6.9 -11.688,-6.896 -11.861,-6.861 -12.024,-6.794 -12.171,-6.696 -12.296,-6.571 -12.394,-6.424 -12.461,-6.261 -12.496,-6.088 -12.5,-6 -12.5,-0.25
  region: -14,-1 -14,6 -14,6.236 -13.908,6.7 -13.727,7.137 -13.464,7.53 -13.13,7.864 -12.737,8.127 -12.3,8.308 -11.836,8.4 -11.6,8.4 11.6,8.4 11.836,8.4 12.3,8.308 12.737,8.127 13.13,7.864 13.464,7.53 13.727,7.137 13.908,6.7 14,6.236 14,6 14,-1 12.5,-1 12.5,6 12.496,6.088 12.461,6.261 12.394,6.424 12.296,6.571 12.171,6.696 12.024,6.794 11.861,6.861 11.688,6.896 11.6,6.9 -11.6,6.9 -11.688,6.896 -11.861,6.861 -12.024,6.794 -12.171,6.696 -12.296,6.571 -12.394,6.424 -12.461,6.261 -12.496,6.088 -12.5,6 -12.5,-1
Top Paste:
  region: -14,0.25 -14,6 -14,6.236 -13.908,6.7 -13.727,7.137 -13.464,7.53 -13.13,7.864 -12.737,8.127 -12.3,8.308 -11.836,8.4 -11.6,8.4 11.6,8.4 11.836,8.4 12.3,8.308 12.737,8.127 13.13,7.864 13.464,7.53 13.727,7.137 13.908,6.7 14,6.236 14,6 14,0.25 12.5,0.25 12.5,6 12.496,6.088 12.461,6.261 12.394,6.424 12.296,6.571 12.171,6.696 12.024,6.794 11.861,6.861 11.688,6.896 11.6,6.9 -11.6,6.9 -11.688,6.896 -11.861,6.861 -12.024,6.794 -12.171,6.696 -12.296,6.571 -12.394,6.424 -12.461,6.261 -12.496,6.088 -12.5,6 -12.5,0.25
  region: -14,-0.25 -14,-6 -14,-6.236 -13.908,-6.7 -13.727,-7.137 -13.464,-7.53 -13.13,-7.864 -12.737,-8.127 -12.3,-8.308 -11.836,-8.4 -11.6,-8.4 11.6,-8.4 11.836,-8.4 12.3,-8.308 12.737,-8.127 13.13,-7.864 13.464,-7.53 13.727,-7.137 13.908,-6.7 14,-6.236 14,-6 14,-0.25 12.5,-0.25 12.5,-6 12.496,-6.088 12.461,-6.261 12.394,-6.424 12.296,-6.571 12.171,-6.696 12.024,-6.794 11.861,-6.861 11.688,-6.896 11.6,-6.9 -11.6,-6.9 -11.688,-6.896 -11.861,-6.861 -12.024,-6.794 -12.171,-6.696 -12.296,-6.571 -12.394,-6.424 -12.461,-6.261 -12.496,-6.088 -12.5,-6 -12.5,-0.25
Assembly Notes:
  text "recommended tin paste thickness=0.5mm / customer to define the final stencil gap" at -5,-10 h0.4
Top Component Outline:
  lines w0.1: -13.4,-6.05 ccw(c-11.65,-6.05) -11.65,-7.8 11.65,-7.8 ccw(c11.65,-6.05) 13.4,-6.05 13.4,6.05 ccw(c11.65,6.05) 11.65,7.8 -11.65,7.8 ccw(c-11.65,6.05) -13.4,6.05 -13.4,-6.05
Top 3D Body:
  lines w0.1: -13.4,-6.05 ccw(c-11.65,-6.05) -11.65,-7.8 11.65,-7.8 ccw(c11.65,-6.05) 13.4,-6.05 13.4,6.05 ccw(c11.65,6.05) 11.65,7.8 -11.65,7.8 ccw(c-11.65,6.05) -13.4,6.05 -13.4,-6.05
Top Courtyard:
  lines w0.05: -14.2,-8.6 14.2,-8.6 14.2,8.6 -14.2,8.6 -14.2,-8.6
Top Component Center:
  lines w0.05: -0.5,0 0.5,0 ; 0,-0.5 0,0.5
Top Designator (Mech19):
  text ".Designator" at -7.498,-0.5 h1.5
3D body "36702684.stp": height 4, standoff 0, extent -13.4,-7.8 13.4,7.8

## 36702939 [mm] "Shielding Cabinet, SMT Frame Seamless, 29.3x16.3x9.7mm"
height 9.7
pads (4):
  rect 1x14 smd paste-2539.97 mask-2222: 1(-14.5,0) 1(14.5,0)
  rect 18x1 smd paste-2539.97 mask-2222: 1(0,-8) 1(0,8)
Top Layer:
  region: -15.25,-0.25 -15.25,-6.15 -15.25,-6.406 -15.15,-6.908 -14.954,-7.382 -14.67,-7.807 -14.307,-8.17 -13.882,-8.454 -13.408,-8.65 -12.906,-8.75 -12.65,-8.75 12.65,-8.75 12.906,-8.75 13.408,-8.65 13.882,-8.454 14.307,-8.17 14.67,-7.807 14.954,-7.382 15.15,-6.908 15.25,-6.406 15.25,-6.15 15.25,-0.25 13.75,-0.25 13.75,-5.95 13.744,-6.077 13.694,-6.327 13.596,-6.563 13.455,-6.775 13.275,-6.955 13.063,-7.096 12.827,-7.194 12.577,-7.244 12.45,-7.25 -12.45,-7.25 -12.577,-7.244 -12.827,-7.194 -13.063,-7.096 -13.275,-6.955 -13.455,-6.775 -13.596,-6.563 -13.694,-6.327 -13.744,-6.077 -13.75,-5.95 -13.75,-0.25
  region: -15.25,-1 -15.25,6.15 -15.25,6.406 -15.15,6.908 -14.954,7.382 -14.67,7.807 -14.307,8.17 -13.882,8.454 -13.408,8.65 -12.906,8.75 -12.65,8.75 12.65,8.75 12.906,8.75 13.408,8.65 13.882,8.454 14.307,8.17 14.67,7.807 14.954,7.382 15.15,6.908 15.25,6.406 15.25,6.15 15.25,-1 13.75,-1 13.75,5.95 13.744,6.077 13.694,6.327 13.596,6.563 13.455,6.775 13.275,6.955 13.063,7.096 12.827,7.194 12.577,7.244 12.45,7.25 -12.45,7.25 -12.577,7.244 -12.827,7.194 -13.063,7.096 -13.275,6.955 -13.455,6.775 -13.596,6.563 -13.694,6.327 -13.744,6.077 -13.75,5.95 -13.75,-1
Top Paste:
  region: -15.25,0.25 -15.25,6.15 -15.25,6.406 -15.15,6.908 -14.954,7.382 -14.67,7.807 -14.307,8.17 -13.882,8.454 -13.408,8.65 -12.906,8.75 -12.65,8.75 12.65,8.75 12.906,8.75 13.408,8.65 13.882,8.454 14.307,8.17 14.67,7.807 14.954,7.382 15.15,6.908 15.25,6.406 15.25,6.15 15.25,0.25 13.75,0.25 13.75,5.95 13.744,6.077 13.694,6.327 13.596,6.563 13.455,6.775 13.275,6.955 13.063,7.096 12.827,7.194 12.577,7.244 12.45,7.25 -12.45,7.25 -12.577,7.244 -12.827,7.194 -13.063,7.096 -13.275,6.955 -13.455,6.775 -13.596,6.563 -13.694,6.327 -13.744,6.077 -13.75,5.95 -13.75,0.25
  region: -15.25,-0.25 -15.25,-6.15 -15.25,-6.406 -15.15,-6.908 -14.954,-7.382 -14.67,-7.807 -14.307,-8.17 -13.882,-8.454 -13.408,-8.65 -12.906,-8.75 -12.65,-8.75 12.65,-8.75 12.906,-8.75 13.408,-8.65 13.882,-8.454 14.307,-8.17 14.67,-7.807 14.954,-7.382 15.15,-6.908 15.25,-6.406 15.25,-6.15 15.25,-0.25 13.75,-0.25 13.75,-5.95 13.744,-6.077 13.694,-6.327 13.596,-6.563 13.455,-6.775 13.275,-6.955 13.063,-7.096 12.827,-7.194 12.577,-7.244 12.45,-7.25 -12.45,-7.25 -12.577,-7.244 -12.827,-7.194 -13.063,-7.096 -13.275,-6.955 -13.455,-6.775 -13.596,-6.563 -13.694,-6.327 -13.744,-6.077 -13.75,-5.95 -13.75,-0.25
Assembly Notes:
  text "recommended tin paste thickness=0.5mm / customer to define the final stencil gap" at -5.2,-10.35 h0.4
Top Component Outline:
  lines w0.1: -14.65,-6.15 ccw(c-12.65,-6.15) -12.65,-8.15 12.65,-8.15 ccw(c12.65,-6.15) 14.65,-6.15 14.65,6.15 ccw(c12.65,6.15) 12.65,8.15 -12.65,8.15 ccw(c-12.65,6.15) -14.65,6.15 -14.65,-6.15
Top 3D Body:
  lines w0.1: -14.65,-6.15 ccw(c-12.65,-6.15) -12.65,-8.15 12.65,-8.15 ccw(c12.65,-6.15) 14.65,-6.15 14.65,6.15 ccw(c12.65,6.15) 12.65,8.15 -12.65,8.15 ccw(c-12.65,6.15) -14.65,6.15 -14.65,-6.15
Top Courtyard:
  lines w0.05: -15.45,-8.95 15.45,-8.95 15.45,8.95 -15.45,8.95 -15.45,-8.95
Top Component Center:
  lines w0.05: -0.5,0 0.5,0 ; 0,-0.5 0,0.5
Top Designator (Mech19):
  text ".Designator" at -7.498,-0.5 h1.5
3D body "36702939.stp": height 9.7, standoff 0, extent -14.65,-8.15 14.65,8.15

## 36703234 [mm] "Shielding Cabinet, SMT Frame Seamless, 32.3x23.8x4.7mm"
height 4.7
pads (6):
  rect 1x18 smd paste-2539.97 mask-2222: 1(-16,0) 1(16,0)
  oval 2.1x1.5 hole 0.8 slot 1.4 at 0 deg: 1(-11.15,-11.75) 1(11.15,11.75)
  rect 18x1 smd paste-2539.97 mask-2222: 1(0,-11.75) 1(0,11.75)
Top Layer:
  region: -16.75,-0.25 -16.75,-10 -16.75,-10.246 -16.654,-10.729 -16.465,-11.184 -16.192,-11.594 -15.844,-11.942 -15.434,-12.215 -14.979,-12.404 -14.496,-12.5 -14.25,-12.5 14.25,-12.5 14.496,-12.5 14.979,-12.404 15.434,-12.215 15.844,-11.942 16.192,-11.594 16.465,-11.184 16.654,-10.729 16.75,-10.246 16.75,-10 16.75,-0.25 15.25,-0.25 15.25,-10 15.245,-10.098 15.207,-10.29 15.132,-10.471 15.023,-10.634 14.884,-10.773 14.721,-10.882 14.54,-10.957 14.348,-10.995 14.25,-11 -14.25,-11 -14.348,-10.995 -14.54,-10.957 -14.721,-10.882 -14.884,-10.773 -15.023,-10.634 -15.132,-10.471 -15.207,-10.29 -15.245,-10.098 -15.25,-10 -15.25,-0.25
  region: -16.75,-1 -16.75,10 -16.75,10.246 -16.654,10.729 -16.465,11.184 -16.192,11.594 -15.844,11.942 -15.434,12.215 -14.979,12.404 -14.496,12.5 -14.25,12.5 14.25,12.5 14.496,12.5 14.979,12.404 15.434,12.215 15.844,11.942 16.192,11.594 16.465,11.184 16.654,10.729 16.75,10.246 16.75,10 16.75,-1 15.25,-1 15.25,10 15.245,10.098 15.207,10.29 15.132,10.471 15.023,10.634 14.884,10.773 14.721,10.882 14.54,10.957 14.348,10.995 14.25,11 -14.25,11 -14.348,10.995 -14.54,10.957 -14.721,10.882 -14.884,10.773 -15.023,10.634 -15.132,10.471 -15.207,10.29 -15.245,10.098 -15.25,10 -15.25,-1
Top Paste:
  region: -16.75,0.25 -16.75,10 -16.75,10.246 -16.654,10.729 -16.465,11.184 -16.192,11.594 -15.844,11.942 -15.434,12.215 -14.979,12.404 -14.496,12.5 -14.25,12.5 14.25,12.5 14.496,12.5 14.979,12.404 15.434,12.215 15.844,11.942 16.192,11.594 16.465,11.184 16.654,10.729 16.75,10.246 16.75,10 16.75,0.25 15.25,0.25 15.25,10 15.245,10.098 15.207,10.29 15.132,10.471 15.023,10.634 14.884,10.773 14.721,10.882 14.54,10.957 14.348,10.995 14.25,11 -14.25,11 -14.348,10.995 -14.54,10.957 -14.721,10.882 -14.884,10.773 -15.023,10.634 -15.132,10.471 -15.207,10.29 -15.245,10.098 -15.25,10 -15.25,0.25
  region: -16.75,-0.25 -16.75,-10 -16.75,-10.246 -16.654,-10.729 -16.465,-11.184 -16.192,-11.594 -15.844,-11.942 -15.434,-12.215 -14.979,-12.404 -14.496,-12.5 -14.25,-12.5 14.25,-12.5 14.496,-12.5 14.979,-12.404 15.434,-12.215 15.844,-11.942 16.192,-11.594 16.465,-11.184 16.654,-10.729 16.75,-10.246 16.75,-10 16.75,-0.25 15.25,-0.25 15.25,-10 15.245,-10.098 15.207,-10.29 15.132,-10.471 15.023,-10.634 14.884,-10.773 14.721,-10.882 14.54,-10.957 14.348,-10.995 14.25,-11 -14.25,-11 -14.348,-10.995 -14.54,-10.957 -14.721,-10.882 -14.884,-10.773 -15.023,-10.634 -15.132,-10.471 -15.207,-10.29 -15.245,-10.098 -15.25,-10 -15.25,-0.25
Assembly Notes:
  text "recommended tin paste thickness=0.5mm / customer to define the final stencil gap" at -6.25,-14.15 h0.4
Top Component Outline:
  lines w0.1: -16.15,-9.9 ccw(c-14.15,-9.9) -14.15,-11.9 14.15,-11.9 ccw(c14.15,-9.9) 16.15,-9.9 16.15,9.9 ccw(c14.15,9.9) 14.15,11.9 -14.15,11.9 ccw(c-14.15,9.9) -16.15,9.9 -16.15,-9.9
Top 3D Body:
  lines w0.1: -16.15,-9.9 ccw(c-14.15,-9.9) -14.15,-11.9 14.15,-11.9 ccw(c14.15,-9.9) 16.15,-9.9 16.15,9.9 ccw(c14.15,9.9) 14.15,11.9 -14.15,11.9 ccw(c-14.15,9.9) -16.15,9.9 -16.15,-9.9
Top Courtyard:
  lines w0.05: -16.95,-12.7 16.95,-12.7 16.95,12.7 -16.95,12.7 -16.95,-12.7
Top Component Center:
  lines w0.05: -0.5,0 0.5,0 ; 0,-0.5 0,0.5
Top Designator (Mech19):
  text ".Designator" at -7.498,-0.5 h1.5
3D body "36703234.stp": height 4.7, standoff -1.2, extent -16.15,-11.9 16.15,11.9

## 36703239 [mm] "Shielding Cabinet, SMT Frame Seamless, 32.3x23.8x9mm"
height 9
pads (6):
  rect 1x18 smd paste-2539.97 mask-2222: 1(-16,0) 1(16,0)
  oval 2.1x1.5 hole 0.8 slot 1.4 at 0 deg: 1(-11.15,-11.75) 1(11.15,11.75)
  rect 18x1 smd paste-2539.97 mask-2222: 1(0,-11.75) 1(0,11.75)
Top Layer:
  region: -16.75,-0.25 -16.75,-7.9 -16.75,-8.201 -16.671,-8.799 -16.515,-9.382 -16.284,-9.939 -15.983,-10.461 -15.616,-10.94 -15.189,-11.366 -14.711,-11.733 -14.189,-12.034 -13.632,-12.265 -13.049,-12.421 -12.451,-12.5 -12.15,-12.5 12.15,-12.5 12.451,-12.5 13.049,-12.421 13.632,-12.265 14.189,-12.034 14.711,-11.733 15.189,-11.366 15.616,-10.94 15.983,-10.461 16.284,-9.939 16.515,-9.382 16.671,-8.799 16.75,-8.201 16.75,-7.9 16.75,-0.25 15.25,-0.25 15.25,-7.9 15.243,-8.103 15.19,-8.505 15.085,-8.896 14.93,-9.271 14.728,-9.622 14.481,-9.944 14.194,-10.231 13.872,-10.478 13.521,-10.68 13.146,-10.835 12.755,-10.94 12.353,-10.993 12.15,-11 -12.15,-11 -12.353,-10.993 -12.755,-10.94 -13.146,-10.835 -13.521,-10.68 -13.872,-10.478 -14.194,-10.231 -14.481,-9.944 -14.728,-9.622 -14.93,-9.271 -15.085,-8.896 -15.19,-8.505 -15.243,-8.103 -15.25,-7.9 -15.25,-0.25
  region: -16.75,-1 -16.75,7.9 -16.75,8.201 -16.671,8.799 -16.515,9.382 -16.284,9.939 -15.983,10.461 -15.616,10.939 -15.189,11.366 -14.711,11.733 -14.189,12.034 -13.632,12.265 -13.049,12.421 -12.451,12.5 -12.15,12.5 12.15,12.5 12.451,12.5 13.049,12.421 13.632,12.265 14.189,12.034 14.711,11.733 15.189,11.366 15.616,10.939 15.983,10.461 16.284,9.939 16.515,9.382 16.671,8.799 16.75,8.201 16.75,7.9 16.75,-1 15.25,-1 15.25,7.9 15.243,8.103 15.19,8.505 15.085,8.896 14.93,9.271 14.728,9.622 14.481,9.944 14.194,10.231 13.872,10.478 13.521,10.68 13.146,10.835 12.755,10.94 12.353,10.993 12.15,11 -12.15,11 -12.353,10.993 -12.755,10.94 -13.146,10.835 -13.521,10.68 -13.872,10.478 -14.194,10.231 -14.481,9.944 -14.728,9.622 -14.93,9.271 -15.085,8.896 -15.19,8.505 -15.243,8.103 -15.25,7.9 -15.25,-1
Top Paste:
  region: -16.75,0.25 -16.75,7.9 -16.75,8.201 -16.671,8.799 -16.515,9.382 -16.284,9.939 -15.983,10.461 -15.616,10.94 -15.189,11.366 -14.711,11.733 -14.189,12.034 -13.632,12.265 -13.049,12.421 -12.451,12.5 -12.15,12.5 12.15,12.5 12.451,12.5 13.049,12.421 13.632,12.265 14.189,12.034 14.711,11.733 15.189,11.366 15.616,10.94 15.983,10.461 16.284,9.939 16.515,9.382 16.671,8.799 16.75,8.201 16.75,7.9 16.75,0.25 15.25,0.25 15.25,7.9 15.243,8.103 15.19,8.505 15.085,8.896 14.93,9.271 14.728,9.622 14.481,9.944 14.194,10.231 13.872,10.478 13.521,10.68 13.146,10.835 12.755,10.94 12.353,10.993 12.15,11 -12.15,11 -12.353,10.993 -12.755,10.94 -13.146,10.835 -13.521,10.68 -13.872,10.478 -14.194,10.231 -14.481,9.944 -14.728,9.622 -14.93,9.271 -15.085,8.896 -15.19,8.505 -15.243,8.103 -15.25,7.9 -15.25,0.25
  region: -16.75,-0.25 -16.75,-7.9 -16.75,-8.201 -16.671,-8.799 -16.515,-9.382 -16.284,-9.939 -15.983,-10.461 -15.616,-10.94 -15.189,-11.366 -14.711,-11.733 -14.189,-12.034 -13.632,-12.265 -13.049,-12.421 -12.451,-12.5 -12.15,-12.5 12.15,-12.5 12.451,-12.5 13.049,-12.421 13.632,-12.265 14.189,-12.034 14.711,-11.733 15.189,-11.366 15.616,-10.94 15.983,-10.461 16.284,-9.939 16.515,-9.382 16.671,-8.799 16.75,-8.201 16.75,-7.9 16.75,-0.25 15.25,-0.25 15.25,-7.9 15.243,-8.103 15.19,-8.505 15.085,-8.896 14.93,-9.271 14.728,-9.622 14.481,-9.944 14.194,-10.231 13.872,-10.478 13.521,-10.68 13.146,-10.835 12.755,-10.94 12.353,-10.993 12.15,-11 -12.15,-11 -12.353,-10.993 -12.755,-10.94 -13.146,-10.835 -13.521,-10.68 -13.872,-10.478 -14.194,-10.231 -14.481,-9.944 -14.728,-9.622 -14.93,-9.271 -15.085,-8.896 -15.19,-8.505 -15.243,-8.103 -15.25,-7.9 -15.25,-0.25
Assembly Notes:
  text "recommended tin paste thickness=0.5mm / customer to define the final stencil gap" at -6.25,-14.15 h0.4
Top Component Outline:
  lines w0.1: 16.15,7.9 ccw(c12.15,7.9) 12.15,11.9 -12.15,11.9 ccw(c-12.15,7.9) -16.15,7.9 -16.15,-7.9 ccw(c-12.15,-7.9) -12.15,-11.9 12.15,-11.9 ccw(c12.15,-7.9) 16.15,-7.9 16.15,8
Top Courtyard:
  lines w0.05: -16.95,-12.7 -16.95,12.7 16.95,12.7 16.95,-12.7 -16.95,-12.7
Top Component Center:
  lines w0.05: -0.5,0 0.5,0 ; 0,-0.5 0,0.5
Top Designator (Mech19):
  text ".Designator" at -7.498,-0.5 h1.5
3D body "36703239.stp": height 9, standoff -1.2, extent -16.15,-11.9 16.15,11.9